# Altium schematic symbol library CML0603C0G300JT50V.SchLib: 2 symbols
Pins are listed as number, name and electrical type; pins without a type are passive.

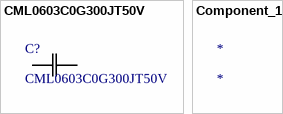
[diagram p0: symbols CML0603C0G300JT50V to Component_1]

## CML0603C0G300JT50V
designator C?
No Description Available; Mfr_Name: Stackpole International; Type: DEV; Copyright: Copyright (C) 2023 Ultra Librarian. All rights reserved.; Manufacturer_Part_Number: CML0603C0G300JT50V; Digi-Key_Part_Number_1: 738-CML0603C0G300JT50VTR-ND; Digi-Key_Part_Number_2: 738-CML0603C0G300JT50VCT-ND; Digi-Key_Part_Number_3: 738-CML0603C0G300JT50VDKR-ND; RefDes: RefDes
footprint CAP_CML_0603_STP
pins: 1, 2

## Component_1
designator *